# Altium footprint library JST BM02B-GHS-TBT.PCBLIB: 1 footprints
Each footprint in its own frame and in the unit in brackets; x right, y up, seen from the top. Pads: shape width x height; smd on the part's side, far side on the other; paste and mask are expansions set on the pad; w line width, h text height; cw(c..) or ccw(c..) is an arc to the next point about the centre after c.
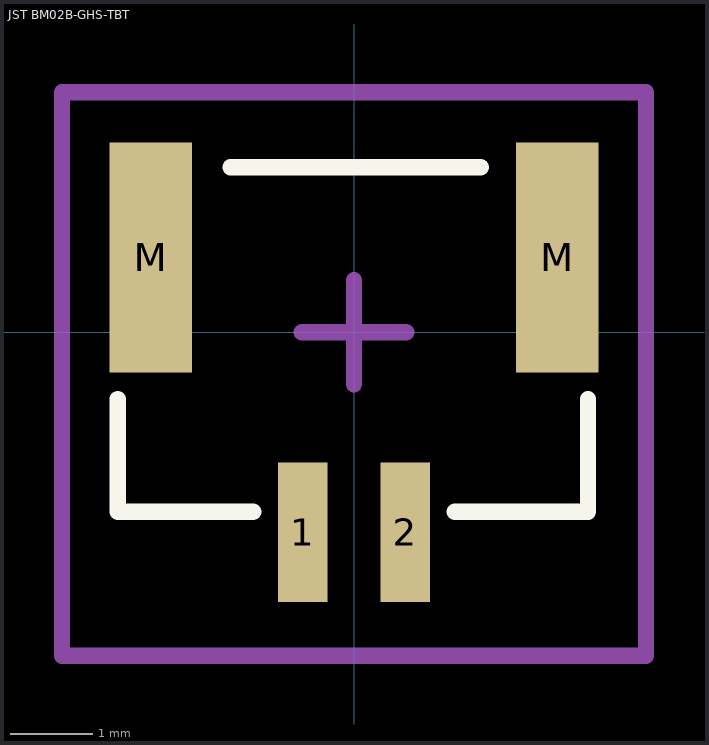
[diagram p0: the footprint, top view; thin cyan lines are the x and y axes]

## JST BM02B-GHS-TBT [mm] "JST GH Series 1.25mm pitch, 4 pin top entry connector"
height 4.5
pads (4):
  rect 0.6x1.7 smd: 1(-0.625,-2.437) 2(0.625,-2.437)
  rect 1x2.8 smd: M(-2.475,0.913) M(2.475,0.913)
Top Overlay:
  lines w0.2: -2.875,-0.812 -2.875,-2.187 -1.225,-2.187 ; -1.504,2.008 1.544,2.008 ; 1.225,-2.187 2.85,-2.187 2.85,-0.812
Mechanical 15:
  lines w0.2: -0.635,0 0.635,0 ; 0,-0.635 0,0.635 ; -3.556,-3.937 3.556,-3.937 3.556,2.921 -3.556,2.921 -3.556,-3.937
3D body "JST BM02B-GHS-TBT.STEP": height 4.18, standoff -0.03, extent -2.875,-2.987 2.875,1.963